# Altium schematic symbol library telegesis.SchLib: 1 symbol
Pins are listed as number, name and electrical type; pins without a type are passive.

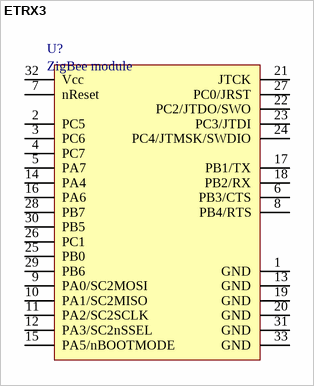
[diagram p0: symbol ETRX3]

## ETRX3
designator U?, comment ZigBee module
ETRX357  ZigBee module; Manufacturer Part Number: ETRX3
pins: 1 GND, 2 PC5, 3 PC6, 4 PC7, 5 PA7, 6 PB3/CTS, 7 nReset, 8 PB4/RTS, 9 PA0/SC2MOSI, 10 PA1/SC2MISO , 11 PA2/SC2SCLK , 12 PA3/SC2nSSEL, 13 GND, 14 PA4, 15 PA5/nBOOTMODE, 16 PA6, 17 PB1/TX, 18 PB2/RX, 19 GND, 20 GND, 21 JTCK, 22 PC2/JTDO/SWO, 23 PC3/JTDI, 24 PC4/JTMSK/SWDIO, 25 PB0, 26 PC1, 27 PC0/JRST, 28 PB7, 29 PB6, 30 PB5, 31 GND, 32 Vcc, 33 GND